# EAGLE library part MCP73871 (library microchip)
IC USB/AC batt chrgr w/ ppm 20QFN
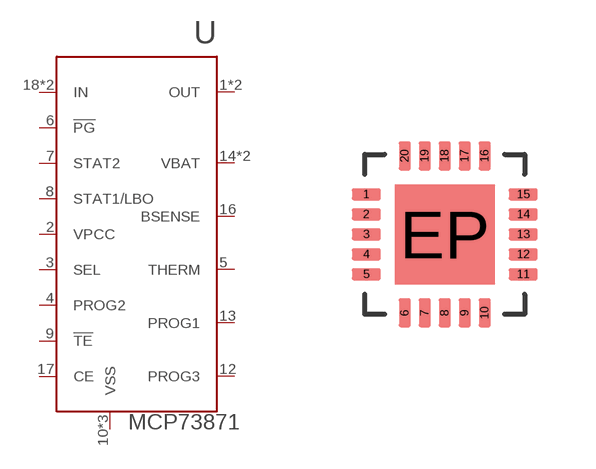
[diagram p9: symbol with the pads of VFQFN-EP-20; footprint VFQFN-EP-20]

Designator prefix U

## MCP73871 (DIGIKEY: MCP73871-2CCI/ML-ND; MFR: Microchip; MPN: MCP73871-2cci/ml-nd)  [VFQFN-EP-20]
1  OUT
2  VPCC
3  SEL
4  PROG2
5  THERM
6  !PG
7  STAT2
8  STAT1/LBO
9  !TE
10  VSS
11  VSS
12  PROG3
13  PROG1
14  VBAT
15  VBAT
16  BSENSE
17  CE
18  IN
19  IN
20  OUT
EP  VSS

## Footprint VFQFN-EP-20 (pad centres in mm)
smd 0.73 x 0.3: 1 -1.965,1; 2 -1.965,0.5; 3 -1.965,0; 4 -1.965,-0.5; 5 -1.965,-1; 11 1.965,-1; 12 1.965,-0.5; 13 1.965,0; 14 1.965,0.5; 15 1.965,1
smd 0.3 x 0.73: 6 -1,-1.965; 7 -0.5,-1.965; 8 0,-1.965; 9 0.5,-1.965; 10 1,-1.965; 16 1,1.965; 17 0.5,1.965; 18 0,1.965; 19 -0.5,1.965; 20 -1,1.965
smd 2.5 x 2.5: EP 0,0